# Altium integrated library Altium_WCAP-CSGP (rev22a).IntLib: 953 symbols (part 4 of 17)
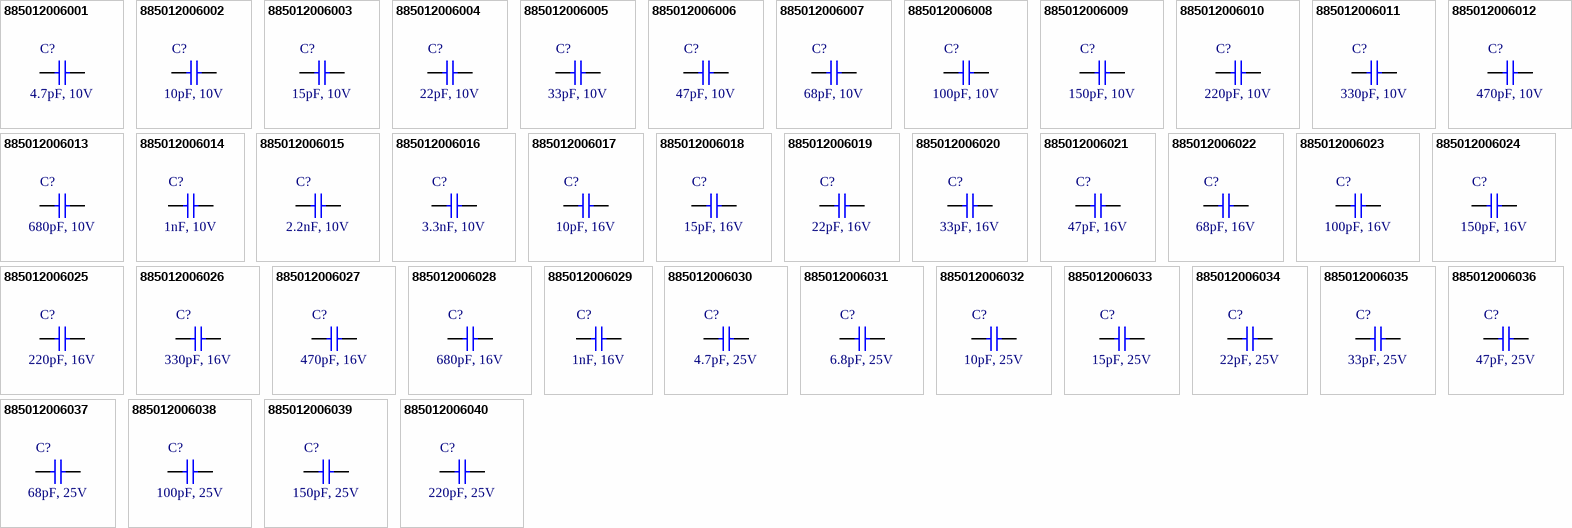
[diagram p30: symbols 885012006001 to 885012006040]

## 885012006016
designator C?, comment 3.3nF, 10V
WCAP-CSGP Multilayer Ceramic Chip Capacitor, General Purpose, size 0603, NP0, 3.3nF, 10V; Manufacturer: Wurth Elektronik; Manufacturer Part Number: 885012006016; Capacitance Tolerance: +/-5%; Isolation Resistance: 10GOhm; Q-Factor: 1000; Technical Reference: NP00603332J010DFCT10000; Capacitance: 3.3nF; Ceramic Type: NP0; ComponentLink1Description: Manufacturer Link; ComponentLink1URL: http://www.we-online.de; ComponentLink2Description: Datasheet; ComponentLink2URL: https://www.we-online.com/catalog/datasheet/885012006016.pdf; Height: 0.8mm; Length: 1.6mm; Mounting Technology: SMT; Operating Temperature max.: 125C; Operating Temperature min.: -55C; Packaging: Tape and Reel; Rated Voltage: 10V; Size: 0603; Width: 0.8mm
footprint WCAP-CSGP_0603_L1.6W0.8H0.8_Wave
footprint WCAP-CSGP_0603_L1.6W0.8H0.8_Reflow
pins: 1, 2

## 885012006017
designator C?, comment 10pF, 16V
WCAP-CSGP Multilayer Ceramic Chip Capacitor, General Purpose, size 0603, NP0, 10pF, 16V; Manufacturer: Wurth Elektronik; Manufacturer Part Number: 885012006017; Capacitance Tolerance: +/-5%; Isolation Resistance: 10GOhm; Q-Factor: 600; Technical Reference: NP00603100J016DFCT10000; Capacitance: 10pF; Ceramic Type: NP0; ComponentLink1Description: Manufacturer Link; ComponentLink1URL: http://www.we-online.de; ComponentLink2Description: Datasheet; ComponentLink2URL: https://www.we-online.com/catalog/datasheet/885012006017.pdf; Height: 0.8mm; Length: 1.6mm; Mounting Technology: SMT; Operating Temperature max.: 125C; Operating Temperature min.: -55C; Packaging: Tape and Reel; Rated Voltage: 16V; Size: 0603; Width: 0.8mm
footprint WCAP-CSGP_0603_L1.6W0.8H0.8_Wave
footprint WCAP-CSGP_0603_L1.6W0.8H0.8_Reflow
pins: 1, 2

## 885012006018
designator C?, comment 15pF, 16V
WCAP-CSGP Multilayer Ceramic Chip Capacitor, General Purpose, size 0603, NP0, 15pF, 16V; Manufacturer: Wurth Elektronik; Manufacturer Part Number: 885012006018; Capacitance Tolerance: +/-5%; Isolation Resistance: 10GOhm; Q-Factor: 700; Technical Reference: NP00603150J016DFCT10000; Capacitance: 15pF; Ceramic Type: NP0; ComponentLink1Description: Manufacturer Link; ComponentLink1URL: http://www.we-online.de; ComponentLink2Description: Datasheet; ComponentLink2URL: https://www.we-online.com/catalog/datasheet/885012006018.pdf; Height: 0.8mm; Length: 1.6mm; Mounting Technology: SMT; Operating Temperature max.: 125C; Operating Temperature min.: -55C; Packaging: Tape and Reel; Rated Voltage: 16V; Size: 0603; Width: 0.8mm
footprint WCAP-CSGP_0603_L1.6W0.8H0.8_Wave
footprint WCAP-CSGP_0603_L1.6W0.8H0.8_Reflow
pins: 1, 2

## 885012006019
designator C?, comment 22pF, 16V
WCAP-CSGP Multilayer Ceramic Chip Capacitor, General Purpose, size 0603, NP0, 22pF, 16V; Manufacturer: Wurth Elektronik; Manufacturer Part Number: 885012006019; Capacitance Tolerance: +/-5%; Isolation Resistance: 10GOhm; Q-Factor: 840; Technical Reference: NP00603220J016DFCT10000; Capacitance: 22pF; Ceramic Type: NP0; ComponentLink1Description: Manufacturer Link; ComponentLink1URL: http://www.we-online.de; ComponentLink2Description: Datasheet; ComponentLink2URL: https://www.we-online.com/catalog/datasheet/885012006019.pdf; Height: 0.8mm; Length: 1.6mm; Mounting Technology: SMT; Operating Temperature max.: 125C; Operating Temperature min.: -55C; Packaging: Tape and Reel; Rated Voltage: 16V; Size: 0603; Width: 0.8mm
footprint WCAP-CSGP_0603_L1.6W0.8H0.8_Wave
footprint WCAP-CSGP_0603_L1.6W0.8H0.8_Reflow
pins: 1, 2

## 885012006020
designator C?, comment 33pF, 16V
WCAP-CSGP Multilayer Ceramic Chip Capacitor, General Purpose, size 0603, NP0, 33pF, 16V; Manufacturer: Wurth Elektronik; Manufacturer Part Number: 885012006020; Capacitance Tolerance: +/-5%; Isolation Resistance: 10GOhm; Q-Factor: 1000; Technical Reference: NP00603330J016DFCT10000; Capacitance: 33pF; Ceramic Type: NP0; ComponentLink1Description: Manufacturer Link; ComponentLink1URL: http://www.we-online.de; ComponentLink2Description: Datasheet; ComponentLink2URL: https://www.we-online.com/catalog/datasheet/885012006020.pdf; Height: 0.8mm; Length: 1.6mm; Mounting Technology: SMT; Operating Temperature max.: 125C; Operating Temperature min.: -55C; Packaging: Tape and Reel; Rated Voltage: 16V; Size: 0603; Width: 0.8mm
footprint WCAP-CSGP_0603_L1.6W0.8H0.8_Wave
footprint WCAP-CSGP_0603_L1.6W0.8H0.8_Reflow
pins: 1, 2

## 885012006021
designator C?, comment 47pF, 16V
WCAP-CSGP Multilayer Ceramic Chip Capacitor, General Purpose, size 0603, NP0, 47pF, 16V; Manufacturer: Wurth Elektronik; Manufacturer Part Number: 885012006021; Capacitance Tolerance: +/-5%; Isolation Resistance: 10GOhm; Q-Factor: 1000; Technical Reference: NP00603470J016DFCT10000; Capacitance: 47pF; Ceramic Type: NP0; ComponentLink1Description: Manufacturer Link; ComponentLink1URL: http://www.we-online.de; ComponentLink2Description: Datasheet; ComponentLink2URL: https://www.we-online.com/catalog/datasheet/885012006021.pdf; Height: 0.8mm; Length: 1.6mm; Mounting Technology: SMT; Operating Temperature max.: 125C; Operating Temperature min.: -55C; Packaging: Tape and Reel; Rated Voltage: 16V; Size: 0603; Width: 0.8mm
footprint WCAP-CSGP_0603_L1.6W0.8H0.8_Wave
footprint WCAP-CSGP_0603_L1.6W0.8H0.8_Reflow
pins: 1, 2

## 885012006022
designator C?, comment 68pF, 16V
WCAP-CSGP Multilayer Ceramic Chip Capacitor, General Purpose, size 0603, NP0, 68pF, 16V; Manufacturer: Wurth Elektronik; Manufacturer Part Number: 885012006022; Capacitance Tolerance: +/-5%; Isolation Resistance: 10GOhm; Q-Factor: 1000; Technical Reference: NP00603680J016DFCT10000; Capacitance: 68pF; Ceramic Type: NP0; ComponentLink1Description: Manufacturer Link; ComponentLink1URL: http://www.we-online.de; ComponentLink2Description: Datasheet; ComponentLink2URL: https://www.we-online.com/catalog/datasheet/885012006022.pdf; Height: 0.8mm; Length: 1.6mm; Mounting Technology: SMT; Operating Temperature max.: 125C; Operating Temperature min.: -55C; Packaging: Tape and Reel; Rated Voltage: 16V; Size: 0603; Width: 0.8mm
footprint WCAP-CSGP_0603_L1.6W0.8H0.8_Wave
footprint WCAP-CSGP_0603_L1.6W0.8H0.8_Reflow
pins: 1, 2

## 885012006023
designator C?, comment 100pF, 16V
WCAP-CSGP Multilayer Ceramic Chip Capacitor, General Purpose, size 0603, NP0, 100pF, 16V; Manufacturer: Wurth Elektronik; Manufacturer Part Number: 885012006023; Capacitance Tolerance: +/-5%; Isolation Resistance: 10GOhm; Q-Factor: 1000; Technical Reference: NP00603101J016DFCT10000; Capacitance: 100pF; Ceramic Type: NP0; ComponentLink1Description: Manufacturer Link; ComponentLink1URL: http://www.we-online.de; ComponentLink2Description: Datasheet; ComponentLink2URL: https://www.we-online.com/catalog/datasheet/885012006023.pdf; Height: 0.8mm; Length: 1.6mm; Mounting Technology: SMT; Operating Temperature max.: 125C; Operating Temperature min.: -55C; Packaging: Tape and Reel; Rated Voltage: 16V; Size: 0603; Width: 0.8mm
footprint WCAP-CSGP_0603_L1.6W0.8H0.8_Wave
footprint WCAP-CSGP_0603_L1.6W0.8H0.8_Reflow
pins: 1, 2

## 885012006024
designator C?, comment 150pF, 16V
WCAP-CSGP Multilayer Ceramic Chip Capacitor, General Purpose, size 0603, NP0, 150pF, 16V; Manufacturer: Wurth Elektronik; Manufacturer Part Number: 885012006024; Capacitance Tolerance: +/-5%; Isolation Resistance: 10GOhm; Q-Factor: 1000; Technical Reference: NP00603151J016DFCT10000; Capacitance: 150pF; Ceramic Type: NP0; ComponentLink1Description: Manufacturer Link; ComponentLink1URL: http://www.we-online.de; ComponentLink2Description: Datasheet; ComponentLink2URL: https://www.we-online.com/catalog/datasheet/885012006024.pdf; Height: 0.8mm; Length: 1.6mm; Mounting Technology: SMT; Operating Temperature max.: 125C; Operating Temperature min.: -55C; Packaging: Tape and Reel; Rated Voltage: 16V; Size: 0603; Width: 0.8mm
footprint WCAP-CSGP_0603_L1.6W0.8H0.8_Wave
footprint WCAP-CSGP_0603_L1.6W0.8H0.8_Reflow
pins: 1, 2

## 885012006025
designator C?, comment 220pF, 16V
WCAP-CSGP Multilayer Ceramic Chip Capacitor, General Purpose, size 0603, NP0, 220pF, 16V; Manufacturer: Wurth Elektronik; Manufacturer Part Number: 885012006025; Capacitance Tolerance: +/-5%; Isolation Resistance: 10GOhm; Q-Factor: 1000; Technical Reference: NP00603221J016DFCT10000; Capacitance: 220pF; Ceramic Type: NP0; ComponentLink1Description: Manufacturer Link; ComponentLink1URL: http://www.we-online.de; ComponentLink2Description: Datasheet; ComponentLink2URL: https://www.we-online.com/catalog/datasheet/885012006025.pdf; Height: 0.8mm; Length: 1.6mm; Mounting Technology: SMT; Operating Temperature max.: 125C; Operating Temperature min.: -55C; Packaging: Tape and Reel; Rated Voltage: 16V; Size: 0603; Width: 0.8mm
footprint WCAP-CSGP_0603_L1.6W0.8H0.8_Wave
footprint WCAP-CSGP_0603_L1.6W0.8H0.8_Reflow
pins: 1, 2

## 885012006026
designator C?, comment 330pF, 16V
WCAP-CSGP Multilayer Ceramic Chip Capacitor, General Purpose, size 0603, NP0, 330pF, 16V; Manufacturer: Wurth Elektronik; Manufacturer Part Number: 885012006026; Capacitance Tolerance: +/-5%; Isolation Resistance: 10GOhm; Q-Factor: 1000; Technical Reference: NP00603331J016DFCT10000; Capacitance: 330pF; Ceramic Type: NP0; ComponentLink1Description: Manufacturer Link; ComponentLink1URL: http://www.we-online.de; ComponentLink2Description: Datasheet; ComponentLink2URL: https://www.we-online.com/catalog/datasheet/885012006026.pdf; Height: 0.8mm; Length: 1.6mm; Mounting Technology: SMT; Operating Temperature max.: 125C; Operating Temperature min.: -55C; Packaging: Tape and Reel; Rated Voltage: 16V; Size: 0603; Width: 0.8mm
footprint WCAP-CSGP_0603_L1.6W0.8H0.8_Wave
footprint WCAP-CSGP_0603_L1.6W0.8H0.8_Reflow
pins: 1, 2

## 885012006027
designator C?, comment 470pF, 16V
WCAP-CSGP Multilayer Ceramic Chip Capacitor, General Purpose, size 0603, NP0, 470pF, 16V; Manufacturer: Wurth Elektronik; Manufacturer Part Number: 885012006027; Capacitance Tolerance: +/-5%; Isolation Resistance: 10GOhm; Q-Factor: 1000; Technical Reference: NP00603471J016DFCT10000; Capacitance: 470pF; Ceramic Type: NP0; ComponentLink1Description: Manufacturer Link; ComponentLink1URL: http://www.we-online.de; ComponentLink2Description: Datasheet; ComponentLink2URL: https://www.we-online.com/catalog/datasheet/885012006027.pdf; Height: 0.8mm; Length: 1.6mm; Mounting Technology: SMT; Operating Temperature max.: 125C; Operating Temperature min.: -55C; Packaging: Tape and Reel; Rated Voltage: 16V; Size: 0603; Width: 0.8mm
footprint WCAP-CSGP_0603_L1.6W0.8H0.8_Wave
footprint WCAP-CSGP_0603_L1.6W0.8H0.8_Reflow
pins: 1, 2

## 885012006028
designator C?, comment 680pF, 16V
WCAP-CSGP Multilayer Ceramic Chip Capacitor, General Purpose, size 0603, NP0, 680pF, 16V; Manufacturer: Wurth Elektronik; Manufacturer Part Number: 885012006028; Capacitance Tolerance: +/-5%; Isolation Resistance: 10GOhm; Q-Factor: 1000; Technical Reference: NP00603681J016DFCT10000; Capacitance: 680pF; Ceramic Type: NP0; ComponentLink1Description: Manufacturer Link; ComponentLink1URL: http://www.we-online.de; ComponentLink2Description: Datasheet; ComponentLink2URL: https://www.we-online.com/catalog/datasheet/885012006028.pdf; Height: 0.8mm; Length: 1.6mm; Mounting Technology: SMT; Operating Temperature max.: 125C; Operating Temperature min.: -55C; Packaging: Tape and Reel; Rated Voltage: 16V; Size: 0603; Width: 0.8mm
footprint WCAP-CSGP_0603_L1.6W0.8H0.8_Wave
footprint WCAP-CSGP_0603_L1.6W0.8H0.8_Reflow
pins: 1, 2

## 885012006029
designator C?, comment 1nF, 16V
WCAP-CSGP Multilayer Ceramic Chip Capacitor, General Purpose, size 0603, NP0, 1nF, 16V; Manufacturer: Wurth Elektronik; Manufacturer Part Number: 885012006029; Capacitance Tolerance: +/-5%; Isolation Resistance: 10GOhm; Q-Factor: 1000; Technical Reference: NP00603102J016DFCT10000; Capacitance: 1nF; Ceramic Type: NP0; ComponentLink1Description: Manufacturer Link; ComponentLink1URL: http://www.we-online.de; ComponentLink2Description: Datasheet; ComponentLink2URL: https://www.we-online.com/catalog/datasheet/885012006029.pdf; Height: 0.8mm; Length: 1.6mm; Mounting Technology: SMT; Operating Temperature max.: 125C; Operating Temperature min.: -55C; Packaging: Tape and Reel; Rated Voltage: 16V; Size: 0603; Width: 0.8mm
footprint WCAP-CSGP_0603_L1.6W0.8H0.8_Wave
footprint WCAP-CSGP_0603_L1.6W0.8H0.8_Reflow
pins: 1, 2

## 885012006030
designator C?, comment 4.7pF, 25V
WCAP-CSGP Multilayer Ceramic Chip Capacitor, General Purpose, size 0603, NP0, 4.7pF, 25V; Manufacturer: Wurth Elektronik; Manufacturer Part Number: 885012006030; Capacitance Tolerance: +/-0.5pF; Isolation Resistance: 10GOhm; Q-Factor: 494; Technical Reference: NP006034R7D025DFCT10000; Capacitance: 4.7pF; Ceramic Type: NP0; ComponentLink1Description: Manufacturer Link; ComponentLink1URL: http://www.we-online.de; ComponentLink2Description: Datasheet; ComponentLink2URL: https://www.we-online.com/catalog/datasheet/885012006030.pdf; Height: 0.8mm; Length: 1.6mm; Mounting Technology: SMT; Operating Temperature max.: 125C; Operating Temperature min.: -55C; Packaging: Tape and Reel; Rated Voltage: 25V; Size: 0603; Width: 0.8mm
footprint WCAP-CSGP_0603_L1.6W0.8H0.8_Wave
footprint WCAP-CSGP_0603_L1.6W0.8H0.8_Reflow
pins: 1, 2

## 885012006031
designator C?, comment 6.8pF, 25V
WCAP-CSGP Multilayer Ceramic Chip Capacitor, General Purpose, size 0603, NP0, 6.8pF, 25V; Manufacturer: Wurth Elektronik; Manufacturer Part Number: 885012006031; Capacitance Tolerance: +/-0.5pF; Isolation Resistance: 10GOhm; Q-Factor: 536; Technical Reference: NP006036R8D025DFCT10000; Capacitance: 6.8pF; Ceramic Type: NP0; ComponentLink1Description: Manufacturer Link; ComponentLink1URL: http://www.we-online.de; ComponentLink2Description: Datasheet; ComponentLink2URL: https://www.we-online.com/catalog/datasheet/885012006031.pdf; Height: 0.8mm; Length: 1.6mm; Mounting Technology: SMT; Operating Temperature max.: 125C; Operating Temperature min.: -55C; Packaging: Tape and Reel; Rated Voltage: 25V; Size: 0603; Width: 0.8mm
footprint WCAP-CSGP_0603_L1.6W0.8H0.8_Wave
footprint WCAP-CSGP_0603_L1.6W0.8H0.8_Reflow
pins: 1, 2

## 885012006032
designator C?, comment 10pF, 25V
WCAP-CSGP Multilayer Ceramic Chip Capacitor, General Purpose, size 0603, NP0, 10pF, 25V; Manufacturer: Wurth Elektronik; Manufacturer Part Number: 885012006032; Capacitance Tolerance: +/-5%; Isolation Resistance: 10GOhm; Q-Factor: 600; Technical Reference: NP00603100J025DFCT10000; Capacitance: 10pF; Ceramic Type: NP0; ComponentLink1Description: Manufacturer Link; ComponentLink1URL: http://www.we-online.de; ComponentLink2Description: Datasheet; ComponentLink2URL: https://www.we-online.com/catalog/datasheet/885012006032.pdf; Height: 0.8mm; Length: 1.6mm; Mounting Technology: SMT; Operating Temperature max.: 125C; Operating Temperature min.: -55C; Packaging: Tape and Reel; Rated Voltage: 25V; Size: 0603; Width: 0.8mm
footprint WCAP-CSGP_0603_L1.6W0.8H0.8_Wave
footprint WCAP-CSGP_0603_L1.6W0.8H0.8_Reflow
pins: 1, 2

## 885012006033
designator C?, comment 15pF, 25V
WCAP-CSGP Multilayer Ceramic Chip Capacitor, General Purpose, size 0603, NP0, 15pF, 25V; Manufacturer: Wurth Elektronik; Manufacturer Part Number: 885012006033; Capacitance Tolerance: +/-5%; Isolation Resistance: 10GOhm; Q-Factor: 700; Technical Reference: NP00603150J025DFCT10000; Capacitance: 15pF; Ceramic Type: NP0; ComponentLink1Description: Manufacturer Link; ComponentLink1URL: http://www.we-online.de; ComponentLink2Description: Datasheet; ComponentLink2URL: https://www.we-online.com/catalog/datasheet/885012006033.pdf; Height: 0.8mm; Length: 1.6mm; Mounting Technology: SMT; Operating Temperature max.: 125C; Operating Temperature min.: -55C; Packaging: Tape and Reel; Rated Voltage: 25V; Size: 0603; Width: 0.8mm
footprint WCAP-CSGP_0603_L1.6W0.8H0.8_Wave
footprint WCAP-CSGP_0603_L1.6W0.8H0.8_Reflow
pins: 1, 2

## 885012006034
designator C?, comment 22pF, 25V
WCAP-CSGP Multilayer Ceramic Chip Capacitor, General Purpose, size 0603, NP0, 22pF, 25V; Manufacturer: Wurth Elektronik; Manufacturer Part Number: 885012006034; Capacitance Tolerance: +/-5%; Isolation Resistance: 10GOhm; Q-Factor: 840; Technical Reference: NP00603220J025DFCT10000; Capacitance: 22pF; Ceramic Type: NP0; ComponentLink1Description: Manufacturer Link; ComponentLink1URL: http://www.we-online.de; ComponentLink2Description: Datasheet; ComponentLink2URL: https://www.we-online.com/catalog/datasheet/885012006034.pdf; Height: 0.8mm; Length: 1.6mm; Mounting Technology: SMT; Operating Temperature max.: 125C; Operating Temperature min.: -55C; Packaging: Tape and Reel; Rated Voltage: 25V; Size: 0603; Width: 0.8mm
footprint WCAP-CSGP_0603_L1.6W0.8H0.8_Wave
footprint WCAP-CSGP_0603_L1.6W0.8H0.8_Reflow
pins: 1, 2

## 885012006035
designator C?, comment 33pF, 25V
WCAP-CSGP Multilayer Ceramic Chip Capacitor, General Purpose, size 0603, NP0, 33pF, 25V; Manufacturer: Wurth Elektronik; Manufacturer Part Number: 885012006035; Capacitance Tolerance: +/-5%; Isolation Resistance: 10GOhm; Q-Factor: 1000; Technical Reference: NP00603330J025DFCT10000; Capacitance: 33pF; Ceramic Type: NP0; ComponentLink1Description: Manufacturer Link; ComponentLink1URL: http://www.we-online.de; ComponentLink2Description: Datasheet; ComponentLink2URL: https://www.we-online.com/catalog/datasheet/885012006035.pdf; Height: 0.8mm; Length: 1.6mm; Mounting Technology: SMT; Operating Temperature max.: 125C; Operating Temperature min.: -55C; Packaging: Tape and Reel; Rated Voltage: 25V; Size: 0603; Width: 0.8mm
footprint WCAP-CSGP_0603_L1.6W0.8H0.8_Wave
footprint WCAP-CSGP_0603_L1.6W0.8H0.8_Reflow
pins: 1, 2

## 885012006036
designator C?, comment 47pF, 25V
WCAP-CSGP Multilayer Ceramic Chip Capacitor, General Purpose, size 0603, NP0, 47pF, 25V; Manufacturer: Wurth Elektronik; Manufacturer Part Number: 885012006036; Capacitance Tolerance: +/-5%; Isolation Resistance: 10GOhm; Q-Factor: 1000; Technical Reference: NP00603470J025DFCT10000; Capacitance: 47pF; Ceramic Type: NP0; ComponentLink1Description: Manufacturer Link; ComponentLink1URL: http://www.we-online.de; ComponentLink2Description: Datasheet; ComponentLink2URL: https://www.we-online.com/catalog/datasheet/885012006036.pdf; Height: 0.8mm; Length: 1.6mm; Mounting Technology: SMT; Operating Temperature max.: 125C; Operating Temperature min.: -55C; Packaging: Tape and Reel; Rated Voltage: 25V; Size: 0603; Width: 0.8mm
footprint WCAP-CSGP_0603_L1.6W0.8H0.8_Wave
footprint WCAP-CSGP_0603_L1.6W0.8H0.8_Reflow
pins: 1, 2

## 885012006037
designator C?, comment 68pF, 25V
WCAP-CSGP Multilayer Ceramic Chip Capacitor, General Purpose, size 0603, NP0, 68pF, 25V; Manufacturer: Wurth Elektronik; Manufacturer Part Number: 885012006037; Capacitance Tolerance: +/-5%; Isolation Resistance: 10GOhm; Q-Factor: 1000; Technical Reference: NP00603680J025DFCT10000; Capacitance: 68pF; Ceramic Type: NP0; ComponentLink1Description: Manufacturer Link; ComponentLink1URL: http://www.we-online.de; ComponentLink2Description: Datasheet; ComponentLink2URL: https://www.we-online.com/catalog/datasheet/885012006037.pdf; Height: 0.8mm; Length: 1.6mm; Mounting Technology: SMT; Operating Temperature max.: 125C; Operating Temperature min.: -55C; Packaging: Tape and Reel; Rated Voltage: 25V; Size: 0603; Width: 0.8mm
footprint WCAP-CSGP_0603_L1.6W0.8H0.8_Wave
footprint WCAP-CSGP_0603_L1.6W0.8H0.8_Reflow
pins: 1, 2

## 885012006038
designator C?, comment 100pF, 25V
WCAP-CSGP Multilayer Ceramic Chip Capacitor, General Purpose, size 0603, NP0, 100pF, 25V; Manufacturer: Wurth Elektronik; Manufacturer Part Number: 885012006038; Capacitance Tolerance: +/-5%; Isolation Resistance: 10GOhm; Q-Factor: 1000; Technical Reference: NP00603101J025DFCT10000; Capacitance: 100pF; Ceramic Type: NP0; ComponentLink1Description: Manufacturer Link; ComponentLink1URL: http://www.we-online.de; ComponentLink2Description: Datasheet; ComponentLink2URL: https://www.we-online.com/catalog/datasheet/885012006038.pdf; Height: 0.8mm; Length: 1.6mm; Mounting Technology: SMT; Operating Temperature max.: 125C; Operating Temperature min.: -55C; Packaging: Tape and Reel; Rated Voltage: 25V; Size: 0603; Width: 0.8mm
footprint WCAP-CSGP_0603_L1.6W0.8H0.8_Wave
footprint WCAP-CSGP_0603_L1.6W0.8H0.8_Reflow
pins: 1, 2

## 885012006039
designator C?, comment 150pF, 25V
WCAP-CSGP Multilayer Ceramic Chip Capacitor, General Purpose, size 0603, NP0, 150pF, 25V; Manufacturer: Wurth Elektronik; Manufacturer Part Number: 885012006039; Capacitance Tolerance: +/-5%; Isolation Resistance: 10GOhm; Q-Factor: 1000; Technical Reference: NP00603151J025DFCT10000; Capacitance: 150pF; Ceramic Type: NP0; ComponentLink1Description: Manufacturer Link; ComponentLink1URL: http://www.we-online.de; ComponentLink2Description: Datasheet; ComponentLink2URL: https://www.we-online.com/catalog/datasheet/885012006039.pdf; Height: 0.8mm; Length: 1.6mm; Mounting Technology: SMT; Operating Temperature max.: 125C; Operating Temperature min.: -55C; Packaging: Tape and Reel; Rated Voltage: 25V; Size: 0603; Width: 0.8mm
footprint WCAP-CSGP_0603_L1.6W0.8H0.8_Wave
footprint WCAP-CSGP_0603_L1.6W0.8H0.8_Reflow
pins: 1, 2

## 885012006040
designator C?, comment 220pF, 25V
WCAP-CSGP Multilayer Ceramic Chip Capacitor, General Purpose, size 0603, NP0, 220pF, 25V; Manufacturer: Wurth Elektronik; Manufacturer Part Number: 885012006040; Capacitance Tolerance: +/-5%; Isolation Resistance: 10GOhm; Q-Factor: 1000; Technical Reference: NP00603221J025DFCT10000; Capacitance: 220pF; Ceramic Type: NP0; ComponentLink1Description: Manufacturer Link; ComponentLink1URL: http://www.we-online.de; ComponentLink2Description: Datasheet; ComponentLink2URL: https://www.we-online.com/catalog/datasheet/885012006040.pdf; Height: 0.8mm; Length: 1.6mm; Mounting Technology: SMT; Operating Temperature max.: 125C; Operating Temperature min.: -55C; Packaging: Tape and Reel; Rated Voltage: 25V; Size: 0603; Width: 0.8mm
footprint WCAP-CSGP_0603_L1.6W0.8H0.8_Wave
footprint WCAP-CSGP_0603_L1.6W0.8H0.8_Reflow
pins: 1, 2

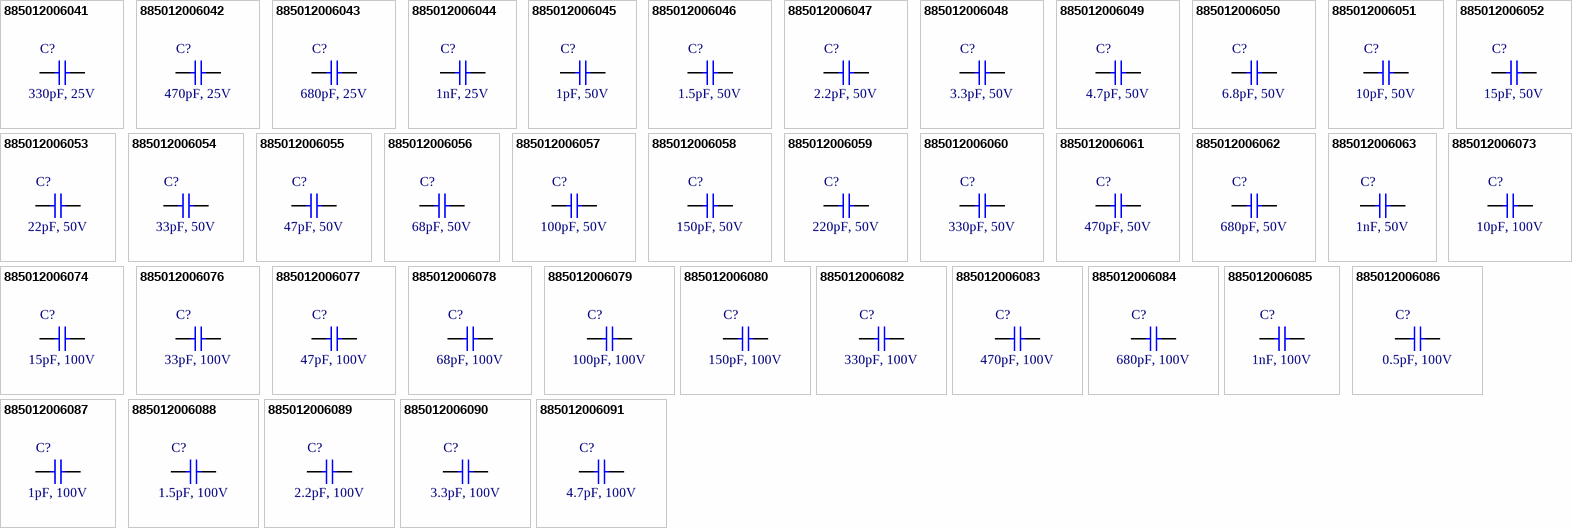
[diagram p6: symbols 885012006041 to 885012006091]

## 885012006041
designator C?, comment 330pF, 25V
WCAP-CSGP Multilayer Ceramic Chip Capacitor, General Purpose, size 0603, NP0, 330pF, 25V; Manufacturer: Wurth Elektronik; Manufacturer Part Number: 885012006041; Capacitance Tolerance: +/-5%; Isolation Resistance: 10GOhm; Q-Factor: 1000; Technical Reference: NP00603331J025DFCT10000; Capacitance: 330pF; Ceramic Type: NP0; ComponentLink1Description: Manufacturer Link; ComponentLink1URL: http://www.we-online.de; ComponentLink2Description: Datasheet; ComponentLink2URL: https://www.we-online.com/catalog/datasheet/885012006041.pdf; Height: 0.8mm; Length: 1.6mm; Mounting Technology: SMT; Operating Temperature max.: 125C; Operating Temperature min.: -55C; Packaging: Tape and Reel; Rated Voltage: 25V; Size: 0603; Width: 0.8mm
footprint WCAP-CSGP_0603_L1.6W0.8H0.8_Wave
footprint WCAP-CSGP_0603_L1.6W0.8H0.8_Reflow
pins: 1, 2

## 885012006042
designator C?, comment 470pF, 25V
WCAP-CSGP Multilayer Ceramic Chip Capacitor, General Purpose, size 0603, NP0, 470pF, 25V; Manufacturer: Wurth Elektronik; Manufacturer Part Number: 885012006042; Capacitance Tolerance: +/-5%; Isolation Resistance: 10GOhm; Q-Factor: 1000; Technical Reference: NP00603471J025DFCT10000; Capacitance: 470pF; Ceramic Type: NP0; ComponentLink1Description: Manufacturer Link; ComponentLink1URL: http://www.we-online.de; ComponentLink2Description: Datasheet; ComponentLink2URL: https://www.we-online.com/catalog/datasheet/885012006042.pdf; Height: 0.8mm; Length: 1.6mm; Mounting Technology: SMT; Operating Temperature max.: 125C; Operating Temperature min.: -55C; Packaging: Tape and Reel; Rated Voltage: 25V; Size: 0603; Width: 0.8mm
footprint WCAP-CSGP_0603_L1.6W0.8H0.8_Wave
footprint WCAP-CSGP_0603_L1.6W0.8H0.8_Reflow
pins: 1, 2

## 885012006043
designator C?, comment 680pF, 25V
WCAP-CSGP Multilayer Ceramic Chip Capacitor, General Purpose, size 0603, NP0, 680pF, 25V; Manufacturer: Wurth Elektronik; Manufacturer Part Number: 885012006043; Capacitance Tolerance: +/-5%; Isolation Resistance: 10GOhm; Q-Factor: 1000; Technical Reference: NP00603681J025DFCT10000; Capacitance: 680pF; Ceramic Type: NP0; ComponentLink1Description: Manufacturer Link; ComponentLink1URL: http://www.we-online.de; ComponentLink2Description: Datasheet; ComponentLink2URL: https://www.we-online.com/catalog/datasheet/885012006043.pdf; Height: 0.8mm; Length: 1.6mm; Mounting Technology: SMT; Operating Temperature max.: 125C; Operating Temperature min.: -55C; Packaging: Tape and Reel; Rated Voltage: 25V; Size: 0603; Width: 0.8mm
footprint WCAP-CSGP_0603_L1.6W0.8H0.8_Wave
footprint WCAP-CSGP_0603_L1.6W0.8H0.8_Reflow
pins: 1, 2

## 885012006044
designator C?, comment 1nF, 25V
WCAP-CSGP Multilayer Ceramic Chip Capacitor, General Purpose, size 0603, NP0, 1nF, 25V; Manufacturer: Wurth Elektronik; Manufacturer Part Number: 885012006044; Capacitance Tolerance: +/-5%; Isolation Resistance: 10GOhm; Q-Factor: 1000; Technical Reference: NP00603102J025DFCT10000; Capacitance: 1nF; Ceramic Type: NP0; ComponentLink1Description: Manufacturer Link; ComponentLink1URL: http://www.we-online.de; ComponentLink2Description: Datasheet; ComponentLink2URL: https://www.we-online.com/catalog/datasheet/885012006044.pdf; Height: 0.8mm; Length: 1.6mm; Mounting Technology: SMT; Operating Temperature max.: 125C; Operating Temperature min.: -55C; Packaging: Tape and Reel; Rated Voltage: 25V; Size: 0603; Width: 0.8mm
footprint WCAP-CSGP_0603_L1.6W0.8H0.8_Wave
footprint WCAP-CSGP_0603_L1.6W0.8H0.8_Reflow
pins: 1, 2

## 885012006045
designator C?, comment 1pF, 50V
WCAP-CSGP Multilayer Ceramic Chip Capacitor, General Purpose, size 0603, NP0, 1pF, 50V; Manufacturer: Wurth Elektronik; Manufacturer Part Number: 885012006045; Capacitance Tolerance: +/-0.5pF; Isolation Resistance: 10GOhm; Q-Factor: 420; Technical Reference: NP006031R0D050DFCT10000; Capacitance: 1pF; Ceramic Type: NP0; ComponentLink1Description: Manufacturer Link; ComponentLink1URL: http://www.we-online.de; ComponentLink2Description: Datasheet; ComponentLink2URL: https://www.we-online.com/catalog/datasheet/885012006045.pdf; Height: 0.8mm; Length: 1.6mm; Mounting Technology: SMT; Operating Temperature max.: 125C; Operating Temperature min.: -55C; Packaging: Tape and Reel; Rated Voltage: 50V; Size: 0603; Width: 0.8mm
footprint WCAP-CSGP_0603_L1.6W0.8H0.8_Wave
footprint WCAP-CSGP_0603_L1.6W0.8H0.8_Reflow
pins: 1, 2

## 885012006046
designator C?, comment 1.5pF, 50V
WCAP-CSGP Multilayer Ceramic Chip Capacitor, General Purpose, size 0603, NP0, 1.5pF, 50V; Manufacturer: Wurth Elektronik; Manufacturer Part Number: 885012006046; Capacitance Tolerance: +/-0.5pF; Isolation Resistance: 10GOhm; Q-Factor: 430; Technical Reference: NP006031R5D050DFCT10000; Capacitance: 1.5pF; Ceramic Type: NP0; ComponentLink1Description: Manufacturer Link; ComponentLink1URL: http://www.we-online.de; ComponentLink2Description: Datasheet; ComponentLink2URL: https://www.we-online.com/catalog/datasheet/885012006046.pdf; Height: 0.8mm; Length: 1.6mm; Mounting Technology: SMT; Operating Temperature max.: 125C; Operating Temperature min.: -55C; Packaging: Tape and Reel; Rated Voltage: 50V; Size: 0603; Width: 0.8mm
footprint WCAP-CSGP_0603_L1.6W0.8H0.8_Wave
footprint WCAP-CSGP_0603_L1.6W0.8H0.8_Reflow
pins: 1, 2

## 885012006047
designator C?, comment 2.2pF, 50V
WCAP-CSGP Multilayer Ceramic Chip Capacitor, General Purpose, size 0603, NP0, 2.2pF, 50V; Manufacturer: Wurth Elektronik; Manufacturer Part Number: 885012006047; Capacitance Tolerance: +/-0.5pF; Isolation Resistance: 10GOhm; Q-Factor: 444; Technical Reference: NP006032R2D050DFCT10000; Capacitance: 2.2pF; Ceramic Type: NP0; ComponentLink1Description: Manufacturer Link; ComponentLink1URL: http://www.we-online.de; ComponentLink2Description: Datasheet; ComponentLink2URL: https://www.we-online.com/catalog/datasheet/885012006047.pdf; Height: 0.8mm; Length: 1.6mm; Mounting Technology: SMT; Operating Temperature max.: 125C; Operating Temperature min.: -55C; Packaging: Tape and Reel; Rated Voltage: 50V; Size: 0603; Width: 0.8mm
footprint WCAP-CSGP_0603_L1.6W0.8H0.8_Wave
footprint WCAP-CSGP_0603_L1.6W0.8H0.8_Reflow
pins: 1, 2

## 885012006048
designator C?, comment 3.3pF, 50V
WCAP-CSGP Multilayer Ceramic Chip Capacitor, General Purpose, size 0603, NP0, 3.3pF, 50V; Manufacturer: Wurth Elektronik; Manufacturer Part Number: 885012006048; Capacitance Tolerance: +/-0.5pF; Isolation Resistance: 10GOhm; Q-Factor: 466; Technical Reference: NP006033R3D050DFCT10000; Capacitance: 3.3pF; Ceramic Type: NP0; ComponentLink1Description: Manufacturer Link; ComponentLink1URL: http://www.we-online.de; ComponentLink2Description: Datasheet; ComponentLink2URL: https://www.we-online.com/catalog/datasheet/885012006048.pdf; Height: 0.8mm; Length: 1.6mm; Mounting Technology: SMT; Operating Temperature max.: 125C; Operating Temperature min.: -55C; Packaging: Tape and Reel; Rated Voltage: 50V; Size: 0603; Width: 0.8mm
footprint WCAP-CSGP_0603_L1.6W0.8H0.8_Wave
footprint WCAP-CSGP_0603_L1.6W0.8H0.8_Reflow
pins: 1, 2

## 885012006049
designator C?, comment 4.7pF, 50V
WCAP-CSGP Multilayer Ceramic Chip Capacitor, General Purpose, size 0603, NP0, 4.7pF, 50V; Manufacturer: Wurth Elektronik; Manufacturer Part Number: 885012006049; Capacitance Tolerance: +/-0.5pF; Isolation Resistance: 10GOhm; Q-Factor: 494; Technical Reference: NP006034R7D050DFCT10000; Capacitance: 4.7pF; Ceramic Type: NP0; ComponentLink1Description: Manufacturer Link; ComponentLink1URL: http://www.we-online.de; ComponentLink2Description: Datasheet; ComponentLink2URL: https://www.we-online.com/catalog/datasheet/885012006049.pdf; Height: 0.8mm; Length: 1.6mm; Mounting Technology: SMT; Operating Temperature max.: 125C; Operating Temperature min.: -55C; Packaging: Tape and Reel; Rated Voltage: 50V; Size: 0603; Width: 0.8mm
footprint WCAP-CSGP_0603_L1.6W0.8H0.8_Wave
footprint WCAP-CSGP_0603_L1.6W0.8H0.8_Reflow
pins: 1, 2

## 885012006050
designator C?, comment 6.8pF, 50V
WCAP-CSGP Multilayer Ceramic Chip Capacitor, General Purpose, size 0603, NP0, 6.8pF, 50V; Manufacturer: Wurth Elektronik; Manufacturer Part Number: 885012006050; Capacitance Tolerance: +/-0.5pF; Isolation Resistance: 10GOhm; Q-Factor: 536; Technical Reference: NP006036R8D050DFCT10000; Capacitance: 6.8pF; Ceramic Type: NP0; ComponentLink1Description: Manufacturer Link; ComponentLink1URL: http://www.we-online.de; ComponentLink2Description: Datasheet; ComponentLink2URL: https://www.we-online.com/catalog/datasheet/885012006050.pdf; Height: 0.8mm; Length: 1.6mm; Mounting Technology: SMT; Operating Temperature max.: 125C; Operating Temperature min.: -55C; Packaging: Tape and Reel; Rated Voltage: 50V; Size: 0603; Width: 0.8mm
footprint WCAP-CSGP_0603_L1.6W0.8H0.8_Wave
footprint WCAP-CSGP_0603_L1.6W0.8H0.8_Reflow
pins: 1, 2

## 885012006051
designator C?, comment 10pF, 50V
WCAP-CSGP Multilayer Ceramic Chip Capacitor, General Purpose, size 0603, NP0, 10pF, 50V; Manufacturer: Wurth Elektronik; Manufacturer Part Number: 885012006051; Capacitance Tolerance: +/-5%; Isolation Resistance: 10GOhm; Q-Factor: 600; Technical Reference: NP00603100J050DFCT10000; Capacitance: 10pF; Ceramic Type: NP0; ComponentLink1Description: Manufacturer Link; ComponentLink1URL: http://www.we-online.de; ComponentLink2Description: Datasheet; ComponentLink2URL: https://www.we-online.com/catalog/datasheet/885012006051.pdf; Height: 0.8mm; Length: 1.6mm; Mounting Technology: SMT; Operating Temperature max.: 125C; Operating Temperature min.: -55C; Packaging: Tape and Reel; Rated Voltage: 50V; Size: 0603; Width: 0.8mm
footprint WCAP-CSGP_0603_L1.6W0.8H0.8_Wave
footprint WCAP-CSGP_0603_L1.6W0.8H0.8_Reflow
pins: 1, 2

## 885012006052
designator C?, comment 15pF, 50V
WCAP-CSGP Multilayer Ceramic Chip Capacitor, General Purpose, size 0603, NP0, 15pF, 50V; Manufacturer: Wurth Elektronik; Manufacturer Part Number: 885012006052; Capacitance Tolerance: +/-5%; Isolation Resistance: 10GOhm; Q-Factor: 700; Technical Reference: NP00603150J050DFCT10000; Capacitance: 15pF; Ceramic Type: NP0; ComponentLink1Description: Manufacturer Link; ComponentLink1URL: http://www.we-online.de; ComponentLink2Description: Datasheet; ComponentLink2URL: https://www.we-online.com/catalog/datasheet/885012006052.pdf; Height: 0.8mm; Length: 1.6mm; Mounting Technology: SMT; Operating Temperature max.: 125C; Operating Temperature min.: -55C; Packaging: Tape and Reel; Rated Voltage: 50V; Size: 0603; Width: 0.8mm
footprint WCAP-CSGP_0603_L1.6W0.8H0.8_Wave
footprint WCAP-CSGP_0603_L1.6W0.8H0.8_Reflow
pins: 1, 2

## 885012006053
designator C?, comment 22pF, 50V
WCAP-CSGP Multilayer Ceramic Chip Capacitor, General Purpose, size 0603, NP0, 22pF, 50V; Manufacturer: Wurth Elektronik; Manufacturer Part Number: 885012006053; Capacitance Tolerance: +/-5%; Isolation Resistance: 10GOhm; Q-Factor: 840; Technical Reference: NP00603220J050DFCT10000; Capacitance: 22pF; Ceramic Type: NP0; ComponentLink1Description: Manufacturer Link; ComponentLink1URL: http://www.we-online.de; ComponentLink2Description: Datasheet; ComponentLink2URL: https://www.we-online.com/catalog/datasheet/885012006053.pdf; Height: 0.8mm; Length: 1.6mm; Mounting Technology: SMT; Operating Temperature max.: 125C; Operating Temperature min.: -55C; Packaging: Tape and Reel; Rated Voltage: 50V; Size: 0603; Width: 0.8mm
footprint WCAP-CSGP_0603_L1.6W0.8H0.8_Wave
footprint WCAP-CSGP_0603_L1.6W0.8H0.8_Reflow
pins: 1, 2

## 885012006054
designator C?, comment 33pF, 50V
WCAP-CSGP Multilayer Ceramic Chip Capacitor, General Purpose, size 0603, NP0, 33pF, 50V; Manufacturer: Wurth Elektronik; Manufacturer Part Number: 885012006054; Capacitance Tolerance: +/-5%; Isolation Resistance: 10GOhm; Q-Factor: 1000; Technical Reference: NP00603330J050DFCT10000; Capacitance: 33pF; Ceramic Type: NP0; ComponentLink1Description: Manufacturer Link; ComponentLink1URL: http://www.we-online.de; ComponentLink2Description: Datasheet; ComponentLink2URL: https://www.we-online.com/catalog/datasheet/885012006054.pdf; Height: 0.8mm; Length: 1.6mm; Mounting Technology: SMT; Operating Temperature max.: 125C; Operating Temperature min.: -55C; Packaging: Tape and Reel; Rated Voltage: 50V; Size: 0603; Width: 0.8mm
footprint WCAP-CSGP_0603_L1.6W0.8H0.8_Wave
footprint WCAP-CSGP_0603_L1.6W0.8H0.8_Reflow
pins: 1, 2

## 885012006055
designator C?, comment 47pF, 50V
WCAP-CSGP Multilayer Ceramic Chip Capacitor, General Purpose, size 0603, NP0, 47pF, 50V; Manufacturer: Wurth Elektronik; Manufacturer Part Number: 885012006055; Capacitance Tolerance: +/-5%; Isolation Resistance: 10GOhm; Q-Factor: 1000; Technical Reference: NP00603470J050DFCT10000; Capacitance: 47pF; Ceramic Type: NP0; ComponentLink1Description: Manufacturer Link; ComponentLink1URL: http://www.we-online.de; ComponentLink2Description: Datasheet; ComponentLink2URL: https://www.we-online.com/catalog/datasheet/885012006055.pdf; Height: 0.8mm; Length: 1.6mm; Mounting Technology: SMT; Operating Temperature max.: 125C; Operating Temperature min.: -55C; Packaging: Tape and Reel; Rated Voltage: 50V; Size: 0603; Width: 0.8mm
footprint WCAP-CSGP_0603_L1.6W0.8H0.8_Wave
footprint WCAP-CSGP_0603_L1.6W0.8H0.8_Reflow
pins: 1, 2

## 885012006056
designator C?, comment 68pF, 50V
WCAP-CSGP Multilayer Ceramic Chip Capacitor, General Purpose, size 0603, NP0, 68pF, 50V; Manufacturer: Wurth Elektronik; Manufacturer Part Number: 885012006056; Capacitance Tolerance: +/-5%; Isolation Resistance: 10GOhm; Q-Factor: 1000; Technical Reference: NP00603680J050DFCT10000; Capacitance: 68pF; Ceramic Type: NP0; ComponentLink1Description: Manufacturer Link; ComponentLink1URL: http://www.we-online.de; ComponentLink2Description: Datasheet; ComponentLink2URL: https://www.we-online.com/catalog/datasheet/885012006056.pdf; Height: 0.8mm; Length: 1.6mm; Mounting Technology: SMT; Operating Temperature max.: 125C; Operating Temperature min.: -55C; Packaging: Tape and Reel; Rated Voltage: 50V; Size: 0603; Width: 0.8mm
footprint WCAP-CSGP_0603_L1.6W0.8H0.8_Wave
footprint WCAP-CSGP_0603_L1.6W0.8H0.8_Reflow
pins: 1, 2

## 885012006057
designator C?, comment 100pF, 50V
WCAP-CSGP Multilayer Ceramic Chip Capacitor, General Purpose, size 0603, NP0, 100pF, 50V; Manufacturer: Wurth Elektronik; Manufacturer Part Number: 885012006057; Capacitance Tolerance: +/-5%; Isolation Resistance: 10GOhm; Q-Factor: 1000; Technical Reference: NP00603101J050DFCT10000; Capacitance: 100pF; Ceramic Type: NP0; ComponentLink1Description: Manufacturer Link; ComponentLink1URL: http://www.we-online.de; ComponentLink2Description: Datasheet; ComponentLink2URL: https://www.we-online.com/catalog/datasheet/885012006057.pdf; Height: 0.8mm; Length: 1.6mm; Mounting Technology: SMT; Operating Temperature max.: 125C; Operating Temperature min.: -55C; Packaging: Tape and Reel; Rated Voltage: 50V; Size: 0603; Width: 0.8mm
footprint WCAP-CSGP_0603_L1.6W0.8H0.8_Wave
footprint WCAP-CSGP_0603_L1.6W0.8H0.8_Reflow
pins: 1, 2

## 885012006058
designator C?, comment 150pF, 50V
WCAP-CSGP Multilayer Ceramic Chip Capacitor, General Purpose, size 0603, NP0, 150pF, 50V; Manufacturer: Wurth Elektronik; Manufacturer Part Number: 885012006058; Capacitance Tolerance: +/-5%; Isolation Resistance: 10GOhm; Q-Factor: 1000; Technical Reference: NP00603151J050DFCT10000; Capacitance: 150pF; Ceramic Type: NP0; ComponentLink1Description: Manufacturer Link; ComponentLink1URL: http://www.we-online.de; ComponentLink2Description: Datasheet; ComponentLink2URL: https://www.we-online.com/catalog/datasheet/885012006058.pdf; Height: 0.8mm; Length: 1.6mm; Mounting Technology: SMT; Operating Temperature max.: 125C; Operating Temperature min.: -55C; Packaging: Tape and Reel; Rated Voltage: 50V; Size: 0603; Width: 0.8mm
footprint WCAP-CSGP_0603_L1.6W0.8H0.8_Wave
footprint WCAP-CSGP_0603_L1.6W0.8H0.8_Reflow
pins: 1, 2

## 885012006059
designator C?, comment 220pF, 50V
WCAP-CSGP Multilayer Ceramic Chip Capacitor, General Purpose, size 0603, NP0, 220pF, 50V; Manufacturer: Wurth Elektronik; Manufacturer Part Number: 885012006059; Capacitance Tolerance: +/-5%; Isolation Resistance: 10GOhm; Q-Factor: 1000; Technical Reference: NP00603221J050DFCT10000; Capacitance: 220pF; Ceramic Type: NP0; ComponentLink1Description: Manufacturer Link; ComponentLink1URL: http://www.we-online.de; ComponentLink2Description: Datasheet; ComponentLink2URL: https://www.we-online.com/catalog/datasheet/885012006059.pdf; Height: 0.8mm; Length: 1.6mm; Mounting Technology: SMT; Operating Temperature max.: 125C; Operating Temperature min.: -55C; Packaging: Tape and Reel; Rated Voltage: 50V; Size: 0603; Width: 0.8mm
footprint WCAP-CSGP_0603_L1.6W0.8H0.8_Wave
footprint WCAP-CSGP_0603_L1.6W0.8H0.8_Reflow
pins: 1, 2

## 885012006060
designator C?, comment 330pF, 50V
WCAP-CSGP Multilayer Ceramic Chip Capacitor, General Purpose, size 0603, NP0, 330pF, 50V; Manufacturer: Wurth Elektronik; Manufacturer Part Number: 885012006060; Capacitance Tolerance: +/-5%; Isolation Resistance: 10GOhm; Q-Factor: 1000; Technical Reference: NP00603331J050DFCT10000; Capacitance: 330pF; Ceramic Type: NP0; ComponentLink1Description: Manufacturer Link; ComponentLink1URL: http://www.we-online.de; ComponentLink2Description: Datasheet; ComponentLink2URL: https://www.we-online.com/catalog/datasheet/885012006060.pdf; Height: 0.8mm; Length: 1.6mm; Mounting Technology: SMT; Operating Temperature max.: 125C; Operating Temperature min.: -55C; Packaging: Tape and Reel; Rated Voltage: 50V; Size: 0603; Width: 0.8mm
footprint WCAP-CSGP_0603_L1.6W0.8H0.8_Wave
footprint WCAP-CSGP_0603_L1.6W0.8H0.8_Reflow
pins: 1, 2

## 885012006061
designator C?, comment 470pF, 50V
WCAP-CSGP Multilayer Ceramic Chip Capacitor, General Purpose, size 0603, NP0, 470pF, 50V; Manufacturer: Wurth Elektronik; Manufacturer Part Number: 885012006061; Capacitance Tolerance: +/-5%; Isolation Resistance: 10GOhm; Q-Factor: 1000; Technical Reference: NP00603471J050DFCT10000; Capacitance: 470pF; Ceramic Type: NP0; ComponentLink1Description: Manufacturer Link; ComponentLink1URL: http://www.we-online.de; ComponentLink2Description: Datasheet; ComponentLink2URL: https://www.we-online.com/catalog/datasheet/885012006061.pdf; Height: 0.8mm; Length: 1.6mm; Mounting Technology: SMT; Operating Temperature max.: 125C; Operating Temperature min.: -55C; Packaging: Tape and Reel; Rated Voltage: 50V; Size: 0603; Width: 0.8mm
footprint WCAP-CSGP_0603_L1.6W0.8H0.8_Wave
footprint WCAP-CSGP_0603_L1.6W0.8H0.8_Reflow
pins: 1, 2

## 885012006062
designator C?, comment 680pF, 50V
WCAP-CSGP Multilayer Ceramic Chip Capacitor, General Purpose, size 0603, NP0, 680pF, 50V; Manufacturer: Wurth Elektronik; Manufacturer Part Number: 885012006062; Capacitance Tolerance: +/-5%; Isolation Resistance: 10GOhm; Q-Factor: 1000; Technical Reference: NP00603681J050DFCT10000; Capacitance: 680pF; Ceramic Type: NP0; ComponentLink1Description: Manufacturer Link; ComponentLink1URL: http://www.we-online.de; ComponentLink2Description: Datasheet; ComponentLink2URL: https://www.we-online.com/catalog/datasheet/885012006062.pdf; Height: 0.8mm; Length: 1.6mm; Mounting Technology: SMT; Operating Temperature max.: 125C; Operating Temperature min.: -55C; Packaging: Tape and Reel; Rated Voltage: 50V; Size: 0603; Width: 0.8mm
footprint WCAP-CSGP_0603_L1.6W0.8H0.8_Wave
footprint WCAP-CSGP_0603_L1.6W0.8H0.8_Reflow
pins: 1, 2

## 885012006063
designator C?, comment 1nF, 50V
WCAP-CSGP Multilayer Ceramic Chip Capacitor, General Purpose, size 0603, NP0, 1nF, 50V; Manufacturer: Wurth Elektronik; Manufacturer Part Number: 885012006063; Capacitance Tolerance: +/-5%; Isolation Resistance: 10GOhm; Q-Factor: 1000; Technical Reference: NP00603102J050DFCT10000; Capacitance: 1nF; Ceramic Type: NP0; ComponentLink1Description: Manufacturer Link; ComponentLink1URL: http://www.we-online.de; ComponentLink2Description: Datasheet; ComponentLink2URL: https://www.we-online.com/catalog/datasheet/885012006063.pdf; Height: 0.8mm; Length: 1.6mm; Mounting Technology: SMT; Operating Temperature max.: 125C; Operating Temperature min.: -55C; Packaging: Tape and Reel; Rated Voltage: 50V; Size: 0603; Width: 0.8mm
footprint WCAP-CSGP_0603_L1.6W0.8H0.8_Wave
footprint WCAP-CSGP_0603_L1.6W0.8H0.8_Reflow
pins: 1, 2

## 885012006073
designator C?, comment 10pF, 100V
WCAP-CSGP Multilayer Ceramic Chip Capacitor, General Purpose, size 0603, NP0, 10pF, 100V; Manufacturer: Wurth Elektronik; Manufacturer Part Number: 885012006073; Capacitance Tolerance: +/-5%; Isolation Resistance: 10GOhm; Q-Factor: 600; Technical Reference: NP00603100J100DFCT10000; Capacitance: 10pF; Ceramic Type: NP0; ComponentLink1Description: Manufacturer Link; ComponentLink1URL: http://www.we-online.de; ComponentLink2Description: Datasheet; ComponentLink2URL: https://www.we-online.com/catalog/datasheet/885012006073.pdf; Height: 0.8mm; Length: 1.6mm; Mounting Technology: SMT; Operating Temperature max.: 125C; Operating Temperature min.: -55C; Packaging: Tape and Reel; Rated Voltage: 100V; Size: 0603; Width: 0.8mm
footprint WCAP-CSGP_0603_L1.6W0.8H0.8_Wave
footprint WCAP-CSGP_0603_L1.6W0.8H0.8_Reflow
pins: 1, 2

## 885012006074
designator C?, comment 15pF, 100V
WCAP-CSGP Multilayer Ceramic Chip Capacitor, General Purpose, size 0603, NP0, 15pF, 100V; Manufacturer: Wurth Elektronik; Manufacturer Part Number: 885012006074; Capacitance Tolerance: +/-5%; Isolation Resistance: 10GOhm; Q-Factor: 700; Technical Reference: NP00603150J100DFCT10000; Capacitance: 15pF; Ceramic Type: NP0; ComponentLink1Description: Manufacturer Link; ComponentLink1URL: http://www.we-online.de; ComponentLink2Description: Datasheet; ComponentLink2URL: https://www.we-online.com/catalog/datasheet/885012006074.pdf; Height: 0.8mm; Length: 1.6mm; Mounting Technology: SMT; Operating Temperature max.: 125C; Operating Temperature min.: -55C; Packaging: Tape and Reel; Rated Voltage: 100V; Size: 0603; Width: 0.8mm
footprint WCAP-CSGP_0603_L1.6W0.8H0.8_Wave
footprint WCAP-CSGP_0603_L1.6W0.8H0.8_Reflow
pins: 1, 2

## 885012006076
designator C?, comment 33pF, 100V
WCAP-CSGP Multilayer Ceramic Chip Capacitor, General Purpose, size 0603, NP0, 33pF, 100V; Manufacturer: Wurth Elektronik; Manufacturer Part Number: 885012006076; Capacitance Tolerance: +/-5%; Isolation Resistance: 10GOhm; Q-Factor: 1000; Technical Reference: NP00603330J100DFCT10000; Capacitance: 33pF; Ceramic Type: NP0; ComponentLink1Description: Manufacturer Link; ComponentLink1URL: http://www.we-online.de; ComponentLink2Description: Datasheet; ComponentLink2URL: https://www.we-online.com/catalog/datasheet/885012006076.pdf; Height: 0.8mm; Length: 1.6mm; Mounting Technology: SMT; Operating Temperature max.: 125C; Operating Temperature min.: -55C; Packaging: Tape and Reel; Rated Voltage: 100V; Size: 0603; Width: 0.8mm
footprint WCAP-CSGP_0603_L1.6W0.8H0.8_Wave
footprint WCAP-CSGP_0603_L1.6W0.8H0.8_Reflow
pins: 1, 2

## 885012006077
designator C?, comment 47pF, 100V
WCAP-CSGP Multilayer Ceramic Chip Capacitor, General Purpose, size 0603, NP0, 47pF, 100V; Manufacturer: Wurth Elektronik; Manufacturer Part Number: 885012006077; Capacitance Tolerance: +/-5%; Isolation Resistance: 10GOhm; Q-Factor: 1000; Technical Reference: NP00603470J100DFCT10000; Capacitance: 47pF; Ceramic Type: NP0; ComponentLink1Description: Manufacturer Link; ComponentLink1URL: http://www.we-online.de; ComponentLink2Description: Datasheet; ComponentLink2URL: https://www.we-online.com/catalog/datasheet/885012006077.pdf; Height: 0.8mm; Length: 1.6mm; Mounting Technology: SMT; Operating Temperature max.: 125C; Operating Temperature min.: -55C; Packaging: Tape and Reel; Rated Voltage: 100V; Size: 0603; Width: 0.8mm
footprint WCAP-CSGP_0603_L1.6W0.8H0.8_Wave
footprint WCAP-CSGP_0603_L1.6W0.8H0.8_Reflow
pins: 1, 2

## 885012006078
designator C?, comment 68pF, 100V
WCAP-CSGP Multilayer Ceramic Chip Capacitor, General Purpose, size 0603, NP0, 68pF, 100V; Manufacturer: Wurth Elektronik; Manufacturer Part Number: 885012006078; Capacitance Tolerance: +/-5%; Isolation Resistance: 10GOhm; Q-Factor: 1000; Technical Reference: NP00603680J100DFCT10000; Capacitance: 68pF; Ceramic Type: NP0; ComponentLink1Description: Manufacturer Link; ComponentLink1URL: http://www.we-online.de; ComponentLink2Description: Datasheet; ComponentLink2URL: https://www.we-online.com/catalog/datasheet/885012006078.pdf; Height: 0.8mm; Length: 1.6mm; Mounting Technology: SMT; Operating Temperature max.: 125C; Operating Temperature min.: -55C; Packaging: Tape and Reel; Rated Voltage: 100V; Size: 0603; Width: 0.8mm
footprint WCAP-CSGP_0603_L1.6W0.8H0.8_Wave
footprint WCAP-CSGP_0603_L1.6W0.8H0.8_Reflow
pins: 1, 2

## 885012006079
designator C?, comment 100pF, 100V
WCAP-CSGP Multilayer Ceramic Chip Capacitor, General Purpose, size 0603, NP0, 100pF, 100V; Manufacturer: Wurth Elektronik; Manufacturer Part Number: 885012006079; Capacitance Tolerance: +/-5%; Isolation Resistance: 10GOhm; Q-Factor: 1000; Technical Reference: NP00603101J100DFCT10000; Capacitance: 100pF; Ceramic Type: NP0; ComponentLink1Description: Manufacturer Link; ComponentLink1URL: http://www.we-online.de; ComponentLink2Description: Datasheet; ComponentLink2URL: https://www.we-online.com/catalog/datasheet/885012006079.pdf; Height: 0.8mm; Length: 1.6mm; Mounting Technology: SMT; Operating Temperature max.: 125C; Operating Temperature min.: -55C; Packaging: Tape and Reel; Rated Voltage: 100V; Size: 0603; Width: 0.8mm
footprint WCAP-CSGP_0603_L1.6W0.8H0.8_Wave
footprint WCAP-CSGP_0603_L1.6W0.8H0.8_Reflow
pins: 1, 2

## 885012006080
designator C?, comment 150pF, 100V
WCAP-CSGP Multilayer Ceramic Chip Capacitor, General Purpose, size 0603, NP0, 150pF, 100V; Manufacturer: Wurth Elektronik; Manufacturer Part Number: 885012006080; Capacitance Tolerance: +/-5%; Isolation Resistance: 10GOhm; Q-Factor: 1000; Technical Reference: NP00603151J100DFCT10000; Capacitance: 150pF; Ceramic Type: NP0; ComponentLink1Description: Manufacturer Link; ComponentLink1URL: http://www.we-online.de; ComponentLink2Description: Datasheet; ComponentLink2URL: https://www.we-online.com/catalog/datasheet/885012006080.pdf; Height: 0.8mm; Length: 1.6mm; Mounting Technology: SMT; Operating Temperature max.: 125C; Operating Temperature min.: -55C; Packaging: Tape and Reel; Rated Voltage: 100V; Size: 0603; Width: 0.8mm
footprint WCAP-CSGP_0603_L1.6W0.8H0.8_Wave
footprint WCAP-CSGP_0603_L1.6W0.8H0.8_Reflow
pins: 1, 2

## 885012006082
designator C?, comment 330pF, 100V
WCAP-CSGP Multilayer Ceramic Chip Capacitor, General Purpose, size 0603, NP0, 330pF, 100V; Manufacturer: Wurth Elektronik; Manufacturer Part Number: 885012006082; Capacitance Tolerance: +/-5%; Isolation Resistance: 10GOhm; Q-Factor: 1000; Technical Reference: NP00603331J100DFCT10000; Capacitance: 330pF; Ceramic Type: NP0; ComponentLink1Description: Manufacturer Link; ComponentLink1URL: http://www.we-online.de; ComponentLink2Description: Datasheet; ComponentLink2URL: https://www.we-online.com/catalog/datasheet/885012006082.pdf; Height: 0.8mm; Length: 1.6mm; Mounting Technology: SMT; Operating Temperature max.: 125C; Operating Temperature min.: -55C; Packaging: Tape and Reel; Rated Voltage: 100V; Size: 0603; Width: 0.8mm
footprint WCAP-CSGP_0603_L1.6W0.8H0.8_Wave
footprint WCAP-CSGP_0603_L1.6W0.8H0.8_Reflow
pins: 1, 2

## 885012006083
designator C?, comment 470pF, 100V
WCAP-CSGP Multilayer Ceramic Chip Capacitor, General Purpose, size 0603, NP0, 470pF, 100V; Manufacturer: Wurth Elektronik; Manufacturer Part Number: 885012006083; Capacitance Tolerance: +/-5%; Isolation Resistance: 10GOhm; Q-Factor: 1000; Technical Reference: NP00603471J100DFCT10000; Capacitance: 470pF; Ceramic Type: NP0; ComponentLink1Description: Manufacturer Link; ComponentLink1URL: http://www.we-online.de; ComponentLink2Description: Datasheet; ComponentLink2URL: https://www.we-online.com/catalog/datasheet/885012006083.pdf; Height: 0.8mm; Length: 1.6mm; Mounting Technology: SMT; Operating Temperature max.: 125C; Operating Temperature min.: -55C; Packaging: Tape and Reel; Rated Voltage: 100V; Size: 0603; Width: 0.8mm
footprint WCAP-CSGP_0603_L1.6W0.8H0.8_Wave
footprint WCAP-CSGP_0603_L1.6W0.8H0.8_Reflow
pins: 1, 2